# EAGLE library part FPGA_EP4C_T144(CYCLONE4) (library QuantumOptics)
Altera FPGA in EQFP-144 such as EP4CE Cyclone IV or MAX10.
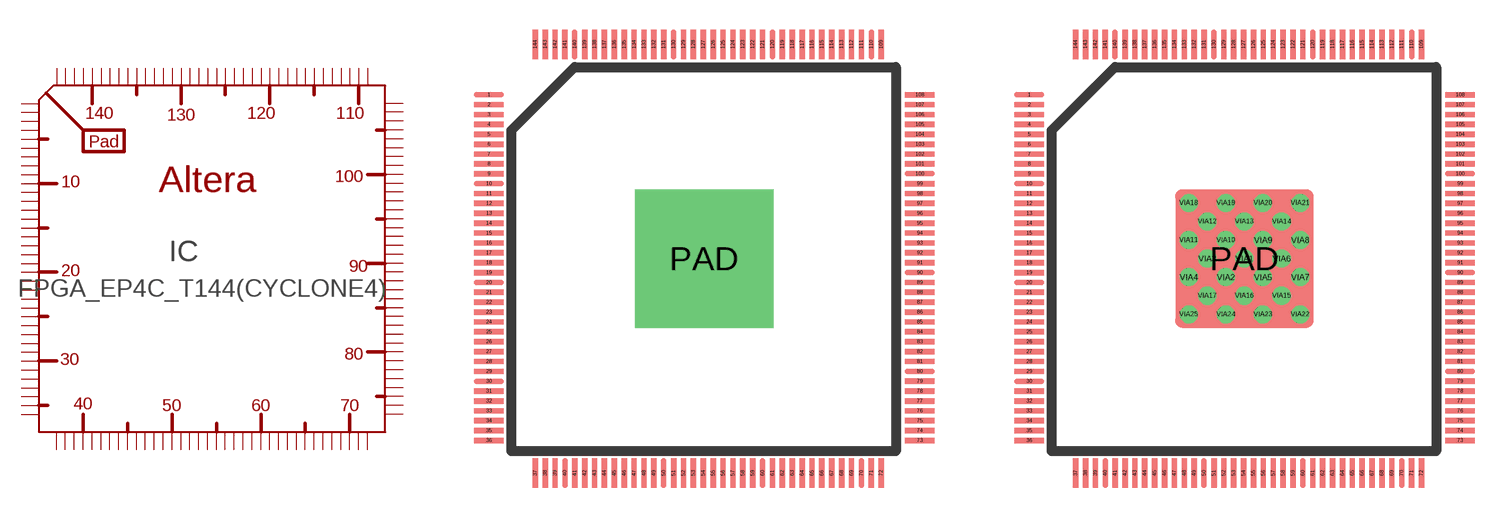
[diagram p147: symbol with the pads of EQFP144(TQFP_WITH_GROUND_PAD); footprints EQFP144(TQFP_WITH_GROUND_PAD), EQFP144(GROUND_PAD_WITH_VIAS)]

Designator prefix IC

## FPGA_EP4C_T144(CYCLONE4)EQFP_ONE_VIA  [EQFP144(TQFP_WITH_GROUND_PAD)]
1  1
2  2
3  3
4  4
5  5
6  6
7  7
8  8
9  9
10  10
11  11
12  12
13  13
14  14
15  15
16  16
17  17
18  18
19  19
20  20
21  21
22  22
23  23
24  24
25  25
26  26
27  27
28  28
29  29
30  30
31  31
32  32
33  33
34  34
35  35
36  36
37  37
38  38
39  39
40  40
41  41
42  42
43  43
44  44
45  45
46  46
47  47
48  48
49  49
50  50
51  51
52  52
53  53
54  54
55  55
56  56
57  57
58  58
59  59
60  60
61  61
62  62
63  63
64  64
65  65
66  66
67  67
68  68
69  69
70  70
71  71
72  72
73  73
74  74
75  75
76  76
77  77
78  78
79  79
80  80
81  81
82  82
83  83
84  84
85  85
86  86
87  87
88  88
89  89
90  90
91  91
92  92
93  93
94  94
95  95
96  96
97  97
98  98
99  99
100  100
101  101
102  102
103  103
104  104
105  105
106  106
107  107
108  108
109  109
110  110
111  111
112  112
113  113
114  114
115  115
116  116
117  117
118  118
119  119
120  120
121  121
122  122
123  123
124  124
125  125
126  126
127  127
128  128
129  129
130  130
131  131
132  132
133  133
134  134
135  135
136  136
137  137
138  138
139  139
140  140
141  141
142  142
143  143
144  144
PAD  PAD

## FPGA_EP4C_T144(CYCLONE4)-EQFP144_WITH_VIAS (FAMILY: MAX 10)  [EQFP144(GROUND_PAD_WITH_VIAS)]
1  1
2  2
3  3
4  4
5  5
6  6
7  7
8  8
9  9
10  10
11  11
12  12
13  13
14  14
15  15
16  16
17  17
18  18
19  19
20  20
21  21
22  22
23  23
24  24
25  25
26  26
27  27
28  28
29  29
30  30
31  31
32  32
33  33
34  34
35  35
36  36
37  37
38  38
39  39
40  40
41  41
42  42
43  43
44  44
45  45
46  46
47  47
48  48
49  49
50  50
51  51
52  52
53  53
54  54
55  55
56  56
57  57
58  58
59  59
60  60
61  61
62  62
63  63
64  64
65  65
66  66
67  67
68  68
69  69
70  70
71  71
72  72
73  73
74  74
75  75
76  76
77  77
78  78
79  79
80  80
81  81
82  82
83  83
84  84
85  85
86  86
87  87
88  88
89  89
90  90
91  91
92  92
93  93
94  94
95  95
96  96
97  97
98  98
99  99
100  100
101  101
102  102
103  103
104  104
105  105
106  106
107  107
108  108
109  109
110  110
111  111
112  112
113  113
114  114
115  115
116  116
117  117
118  118
119  119
120  120
121  121
122  122
123  123
124  124
125  125
126  126
127  127
128  128
129  129
130  130
131  131
132  132
133  133
134  134
135  135
136  136
137  137
138  138
139  139
140  140
141  141
142  142
143  143
144  144
PAD  PAD
VIA1  PAD
VIA2  PAD
VIA3  PAD
VIA4  PAD
VIA5  PAD
VIA6  PAD
VIA7  PAD
VIA8  PAD
VIA9  PAD
VIA10  PAD
VIA11  PAD
VIA12  PAD
VIA13  PAD
VIA14  PAD
VIA15  PAD
VIA16  PAD
VIA17  PAD
VIA18  PAD
VIA19  PAD
VIA20  PAD
VIA21  PAD
VIA22  PAD
VIA23  PAD
VIA24  PAD
VIA25  PAD

## Footprint EQFP144(TQFP_WITH_GROUND_PAD) (pad centres in mm)
EQFP-144, Enhanced QFP, similar to TQFP-144 with a ground pad but bit bigger, Altera. http://www.altera.com/literature/ds/144-EQFP.pdf
smd 1.5 x 0.27: 1 -10.89,8.29; 2 -10.89,7.79; 3 -10.89,7.29; 4 -10.89,6.79; 5 -10.89,6.29; 6 -10.89,5.79; 7 -10.89,5.29; 8 -10.89,4.79; 9 -10.89,4.29; 10 -10.89,3.79; 11 -10.89,3.29; 12 -10.89,2.79; 13 -10.89,2.29; 14 -10.89,1.79; 15 -10.89,1.29; 16 -10.89,0.79; 17 -10.89,0.29; 18 -10.89,-0.21; 19 -10.89,-0.71; 20 -10.89,-1.21; 21 -10.89,-1.71; 22 -10.89,-2.21; 23 -10.89,-2.71; 24 -10.89,-3.21; 25 -10.89,-3.71; 26 -10.89,-4.21; 27 -10.89,-4.71; 28 -10.89,-5.21; 29 -10.89,-5.71; 30 -10.89,-6.21; 31 -10.89,-6.71; 32 -10.89,-7.21; 33 -10.89,-7.71; 34 -10.89,-8.21; 35 -10.89,-8.71; 36 -10.89,-9.21; 73 10.91,-9.21; 74 10.91,-8.71; 75 10.91,-8.21; 76 10.91,-7.71; 77 10.91,-7.21; 78 10.91,-6.71; 79 10.91,-6.21; 80 10.91,-5.71; 81 10.91,-5.21; 82 10.91,-4.71; 83 10.91,-4.21; 84 10.91,-3.71; 85 10.91,-3.21; 86 10.91,-2.71; 87 10.91,-2.21; 88 10.91,-1.71; 89 10.91,-1.21; 90 10.91,-0.71; 91 10.91,-0.21; 92 10.91,0.29; 93 10.91,0.79; 94 10.91,1.29; 95 10.91,1.79; 96 10.91,2.29; 97 10.91,2.79; 98 10.91,3.29; 99 10.91,3.79; 100 10.91,4.29; 101 10.91,4.79; 102 10.91,5.29; 103 10.91,5.79; 104 10.91,6.29; 105 10.91,6.79; 106 10.91,7.29; 107 10.91,7.79; 108 10.91,8.29
smd 0.27 x 1.5: 37 -8.54,-10.86; 38 -8.04,-10.86; 39 -7.54,-10.86; 40 -7.04,-10.86; 41 -6.54,-10.86; 42 -6.04,-10.86; 43 -5.54,-10.86; 44 -5.04,-10.86; 45 -4.54,-10.86; 46 -4.04,-10.86; 47 -3.54,-10.86; 48 -3.04,-10.86; 49 -2.54,-10.86; 50 -2.04,-10.86; 51 -1.54,-10.86; 52 -1.04,-10.86; 53 -0.54,-10.86; 54 -0.04,-10.86; 55 0.46,-10.86; 56 0.96,-10.86; 57 1.46,-10.86; 58 1.96,-10.86; 59 2.46,-10.86; 60 2.96,-10.86; 61 3.46,-10.86; 62 3.96,-10.86; 63 4.46,-10.86; 64 4.96,-10.86; 65 5.46,-10.86; 66 5.96,-10.86; 67 6.46,-10.86; 68 6.96,-10.86; 69 7.46,-10.86; 70 7.96,-10.86; 71 8.46,-10.86; 72 8.96,-10.86; 109 8.96,10.84; 110 8.46,10.84; 111 7.96,10.84; 112 7.46,10.84; 113 6.96,10.84; 114 6.46,10.84; 115 5.96,10.84; 116 5.46,10.84; 117 4.96,10.84; 118 4.46,10.84; 119 3.96,10.84; 120 3.46,10.84; 121 2.96,10.84; 122 2.46,10.84; 123 1.96,10.84; 124 1.46,10.84; 125 0.96,10.84; 126 0.46,10.84; 127 -0.04,10.84; 128 -0.54,10.84; 129 -1.04,10.84; 130 -1.54,10.84; 131 -2.04,10.84; 132 -2.54,10.84; 133 -3.04,10.84; 134 -3.54,10.84; 135 -4.04,10.84; 136 -4.54,10.84; 137 -5.04,10.84; 138 -5.54,10.84; 139 -6.04,10.84; 140 -6.54,10.84; 141 -7.04,10.84; 142 -7.54,10.84; 143 -8.04,10.84; 144 -8.54,10.84
drill 3.175 pad 7 square: PAD 0,0

## Footprint EQFP144(GROUND_PAD_WITH_VIAS) (pad centres in mm)
EQFP-144, Enhanced QFP with ground pad and thermal vias, Altera. Drills are tool size. http://www.altera.com/literature/ds/144-EQFP.pdf
smd 1.5 x 0.27: 1 -10.89,8.29; 2 -10.89,7.79; 3 -10.89,7.29; 4 -10.89,6.79; 5 -10.89,6.29; 6 -10.89,5.79; 7 -10.89,5.29; 8 -10.89,4.79; 9 -10.89,4.29; 10 -10.89,3.79; 11 -10.89,3.29; 12 -10.89,2.79; 13 -10.89,2.29; 14 -10.89,1.79; 15 -10.89,1.29; 16 -10.89,0.79; 17 -10.89,0.29; 18 -10.89,-0.21; 19 -10.89,-0.71; 20 -10.89,-1.21; 21 -10.89,-1.71; 22 -10.89,-2.21; 23 -10.89,-2.71; 24 -10.89,-3.21; 25 -10.89,-3.71; 26 -10.89,-4.21; 27 -10.89,-4.71; 28 -10.89,-5.21; 29 -10.89,-5.71; 30 -10.89,-6.21; 31 -10.89,-6.71; 32 -10.89,-7.21; 33 -10.89,-7.71; 34 -10.89,-8.21; 35 -10.89,-8.71; 36 -10.89,-9.21; 73 10.91,-9.21; 74 10.91,-8.71; 75 10.91,-8.21; 76 10.91,-7.71; 77 10.91,-7.21; 78 10.91,-6.71; 79 10.91,-6.21; 80 10.91,-5.71; 81 10.91,-5.21; 82 10.91,-4.71; 83 10.91,-4.21; 84 10.91,-3.71; 85 10.91,-3.21; 86 10.91,-2.71; 87 10.91,-2.21; 88 10.91,-1.71; 89 10.91,-1.21; 90 10.91,-0.71; 91 10.91,-0.21; 92 10.91,0.29; 93 10.91,0.79; 94 10.91,1.29; 95 10.91,1.79; 96 10.91,2.29; 97 10.91,2.79; 98 10.91,3.29; 99 10.91,3.79; 100 10.91,4.29; 101 10.91,4.79; 102 10.91,5.29; 103 10.91,5.79; 104 10.91,6.29; 105 10.91,6.79; 106 10.91,7.29; 107 10.91,7.79; 108 10.91,8.29
smd 0.27 x 1.5: 37 -8.54,-10.86; 38 -8.04,-10.86; 39 -7.54,-10.86; 40 -7.04,-10.86; 41 -6.54,-10.86; 42 -6.04,-10.86; 43 -5.54,-10.86; 44 -5.04,-10.86; 45 -4.54,-10.86; 46 -4.04,-10.86; 47 -3.54,-10.86; 48 -3.04,-10.86; 49 -2.54,-10.86; 50 -2.04,-10.86; 51 -1.54,-10.86; 52 -1.04,-10.86; 53 -0.54,-10.86; 54 -0.04,-10.86; 55 0.46,-10.86; 56 0.96,-10.86; 57 1.46,-10.86; 58 1.96,-10.86; 59 2.46,-10.86; 60 2.96,-10.86; 61 3.46,-10.86; 62 3.96,-10.86; 63 4.46,-10.86; 64 4.96,-10.86; 65 5.46,-10.86; 66 5.96,-10.86; 67 6.46,-10.86; 68 6.96,-10.86; 69 7.46,-10.86; 70 7.96,-10.86; 71 8.46,-10.86; 72 8.96,-10.86; 109 8.96,10.84; 110 8.46,10.84; 111 7.96,10.84; 112 7.46,10.84; 113 6.96,10.84; 114 6.46,10.84; 115 5.96,10.84; 116 5.46,10.84; 117 4.96,10.84; 118 4.46,10.84; 119 3.96,10.84; 120 3.46,10.84; 121 2.96,10.84; 122 2.46,10.84; 123 1.96,10.84; 124 1.46,10.84; 125 0.96,10.84; 126 0.46,10.84; 127 -0.04,10.84; 128 -0.54,10.84; 129 -1.04,10.84; 130 -1.54,10.84; 131 -2.04,10.84; 132 -2.54,10.84; 133 -3.04,10.84; 134 -3.54,10.84; 135 -4.04,10.84; 136 -4.54,10.84; 137 -5.04,10.84; 138 -5.54,10.84; 139 -6.04,10.84; 140 -6.54,10.84; 141 -7.04,10.84; 142 -7.54,10.84; 143 -8.04,10.84; 144 -8.54,10.84
smd 7 x 7: PAD 0,0
drill 0.406 pad 0.711: VIA1 0,0; VIA2 -0.94,-0.94; VIA3 -1.88,0; VIA4 -2.819,-0.94; VIA5 0.94,-0.94; VIA6 1.88,0; VIA7 2.819,-0.94; VIA8 2.819,0.94; VIA9 0.94,0.94; VIA10 -0.94,0.94; VIA11 -2.819,0.94; VIA12 -1.88,1.88; VIA13 0,1.88; VIA14 1.88,1.88; VIA15 1.88,-1.88; VIA16 0,-1.88; VIA17 -1.88,-1.88; VIA18 -2.819,2.819; VIA19 -0.94,2.819; VIA20 0.94,2.819; VIA21 2.819,2.819; VIA22 2.819,-2.819; VIA23 0.94,-2.819; VIA24 -0.94,-2.819; VIA25 -2.819,-2.819